# EAGLE library part TM1637__SOP_ (library TM1637__SOP_)
LED Drive Control Special Circuit Source: Datasheet <https://www.mcielectronics.cl/website_MCI/static/documents/Datasheet_TM1637.pdf>
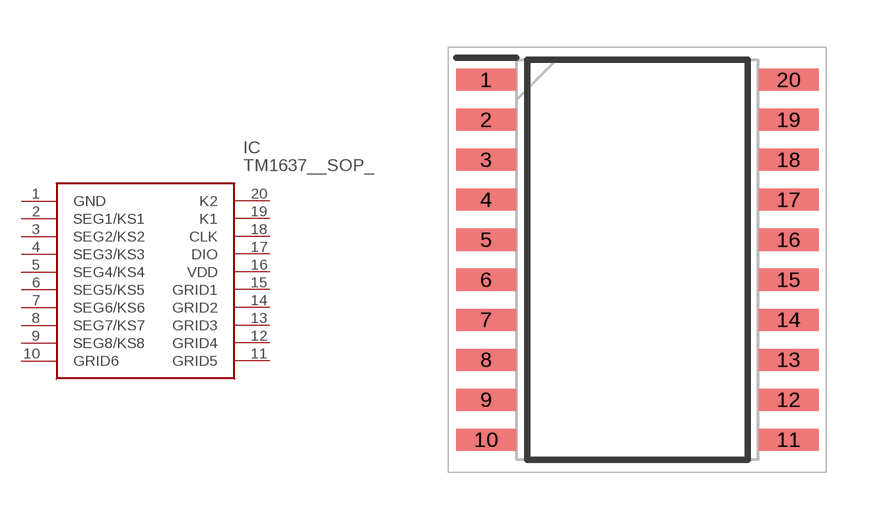
[diagram p0: symbol with the pads of SOIC127P1045X280-20N; footprint SOIC127P1045X280-20N]

Designator prefix IC

## TM1637__SOP_ (Description: LED Drive Control Special Circuit; Height: 2.8mm; Manufacturer_Name: TITAN MICRO ELECTRONICS; Manufacturer_Part_Number: TM1637 (SOP))  [SOIC127P1045X280-20N]
1  GND
2  SEG1/KS1
3  SEG2/KS2
4  SEG3/KS3
5  SEG4/KS4
6  SEG5/KS5
7  SEG6/KS6
8  SEG7/KS7
9  SEG8/KS8
10  GRID6
11  GRID5
12  GRID4
13  GRID3
14  GRID2
15  GRID1
16  VDD
17  DIO
18  CLK
19  K1
20  K2

## Footprint SOIC127P1045X280-20N (pad centres in mm)
SOP20
smd 1.9 x 0.7: 1 -4.8,5.715; 2 -4.8,4.445; 3 -4.8,3.175; 4 -4.8,1.905; 5 -4.8,0.635; 6 -4.8,-0.635; 7 -4.8,-1.905; 8 -4.8,-3.175; 9 -4.8,-4.445; 10 -4.8,-5.715; 11 4.8,-5.715; 12 4.8,-4.445; 13 4.8,-3.175; 14 4.8,-1.905; 15 4.8,-0.635; 16 4.8,0.635; 17 4.8,1.905; 18 4.8,3.175; 19 4.8,4.445; 20 4.8,5.715